# Altium schematic symbol library Conn_JST_B2B-PH-SM4-TB_LF_SN_eec.SchLib: 1 symbol
Pins are listed as number, name and electrical type; pins without a type are passive.

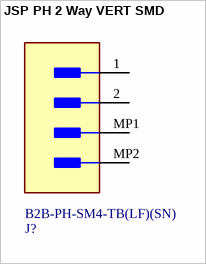
[diagram p0: symbol JSP PH 2 Way VERT SMD]

## JSP PH 2 Way VERT SMD
designator J?  Part Number: B2B-PH-SM4-TB(LF)(SN)
Manufacturer: JST; Category Bda670Ac885E6661: Uncategorized; Category E7012A0Bd22E3Cc6: Headers & Receptacles; contact_material: Brass; pin_pitch: 2 mm; size_length: 7.95 mm; Num Pins: 2; voltage_rating_ac: 100 V; contact_plating: Tin; Category Dab617Bcef8C0171: PC Board; Category E42C2926D3763Feb: Wire to Board; number_of_rows: 1; Category 75Fab8F04590Ae3D: Connectors and Adapters; size_width: 5 mm; gender: Female; current_rating: 2 A; size_height: 6.6 mm; insulation_resistance: 1 GΩ; Category 0836C53C3D42D3F1: Connectors; helpURL: https://upverter.com/upn/revision/aa2260f5f3c02952/; ComponentLink2Description: Datasheet; Temperature: -25˚C to +85˚C; Package: CONN_SMT_7MM95_5MM0; Supplier 2: Mouser; Price: 0.401172514632; Supplier 1: Digi-Key; ComponentLink1URL: https://upverter.com/upn/revision/aa2260f5f3c02952/; Supplier Part Number 1: 455-1734-1-ND; ComponentLink1Description: Upverter; ComponentLink2URL: https://upverter.com/datasheet/05f4473ffc638d76a3bb68900fd4324175be47ba.pdf; RoHS: TRUE; color: White; Category Fcf631Fcc9332731: Uncategorized; number_of_contacts: 2; Temperature Range Low: -25˚C; Digikey Part Number: 455-1734-1-ND; housing_color: Natural; Category A3C16Ecb93907806: Uncategorized; Temperature Range High: +85˚C; Lead Free: yes; flammability_rating: UL 94 V-0; Digikey Description: CONN 2 Positions Header, Shrouded Connector 0.079" (2.00mm) Surface Mount Tin; number_of_positions: 2; housing_material: Nylon; Mounting Type: surface mount
footprint JST_B2B-PH-SM4-TB_LF_SN_0
pins: 1, 2, MP1 MNT 1, MP2 MNT 2